# Altium footprint library LQFP-128_14X14.PcbLib: 1 footprints
Each footprint in its own frame and in the unit in brackets; x right, y up, seen from the top. Pads: shape width x height; smd on the part's side, far side on the other; paste and mask are expansions set on the pad; w line width, h text height; cw(c..) or ccw(c..) is an arc to the next point about the centre after c.
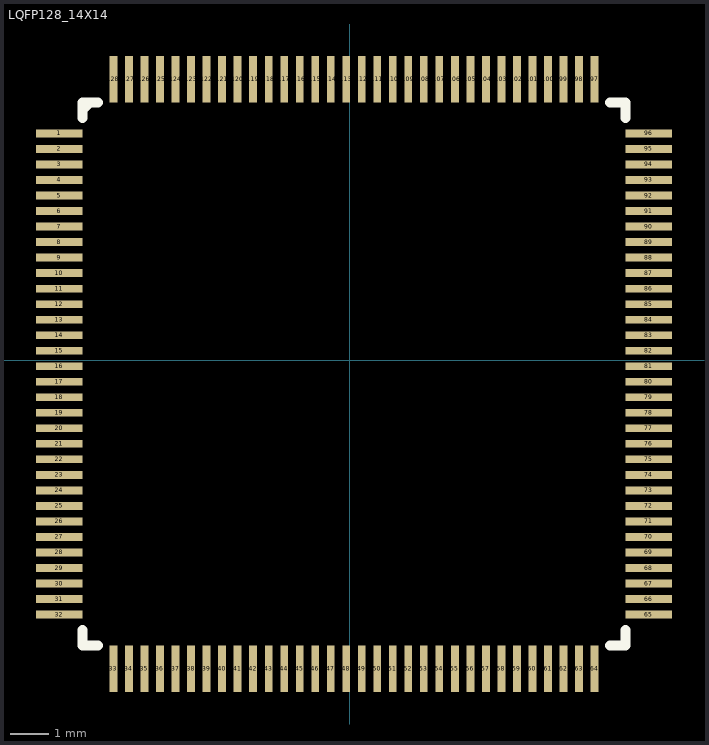
[diagram p0: the footprint, top view; thin cyan lines are the x and y axes]

## LQFP128_14X14 [mm]
pads (128):
  rect 1.2x0.2 smd: 1(-7.493,5.842) 2(-7.493,5.442) 3(-7.493,5.042) 4(-7.493,4.642) 5(-7.493,4.242) 6(-7.493,3.842) 7(-7.493,3.442) 8(-7.493,3.042) 9(-7.493,2.642) 10(-7.493,2.242) 11(-7.493,1.842) 12(-7.493,1.442) 13(-7.493,1.042) 14(-7.493,0.642) 15(-7.493,0.242) 16(-7.493,-0.158) 17(-7.493,-0.558) 18(-7.493,-0.958) 19(-7.493,-1.358) 20(-7.493,-1.758) 21(-7.493,-2.158) 22(-7.493,-2.558) 23(-7.493,-2.958) 24(-7.493,-3.358) 25(-7.493,-3.758) 26(-7.493,-4.158) 27(-7.493,-4.558) 28(-7.493,-4.958) 29(-7.493,-5.358) 30(-7.493,-5.758) 31(-7.493,-6.158) 32(-7.493,-6.558) 65(7.707,-6.558) 66(7.707,-6.158) 67(7.707,-5.758) 68(7.707,-5.358) 69(7.707,-4.958) 70(7.707,-4.558) 71(7.707,-4.158) 72(7.707,-3.758) 73(7.707,-3.358) 74(7.707,-2.958) 75(7.707,-2.558) 76(7.707,-2.158) 77(7.707,-1.758) 78(7.707,-1.358) 79(7.707,-0.958) 80(7.707,-0.558) 81(7.707,-0.158) 82(7.707,0.242) 83(7.707,0.642) 84(7.707,1.042) 85(7.707,1.442) 86(7.707,1.842) 87(7.707,2.242) 88(7.707,2.642) 89(7.707,3.042) 90(7.707,3.442) 91(7.707,3.842) 92(7.707,4.242) 93(7.707,4.642) 94(7.707,5.042) 95(7.707,5.442) 96(7.707,5.842)
  rect 0.2x1.2 smd: 33(-6.093,-7.958) 34(-5.693,-7.958) 35(-5.293,-7.958) 36(-4.893,-7.958) 37(-4.493,-7.958) 38(-4.093,-7.958) 39(-3.693,-7.958) 40(-3.293,-7.958) 41(-2.893,-7.958) 42(-2.493,-7.958) 43(-2.093,-7.958) 44(-1.693,-7.958) 45(-1.293,-7.958) 46(-0.893,-7.958) 47(-0.493,-7.958) 48(-0.093,-7.958) 49(0.307,-7.958) 50(0.707,-7.958) 51(1.107,-7.958) 52(1.507,-7.958) 53(1.907,-7.958) 54(2.307,-7.958) 55(2.707,-7.958) 56(3.107,-7.958) 57(3.507,-7.958) 58(3.907,-7.958) 59(4.307,-7.958) 60(4.707,-7.958) 61(5.107,-7.958) 62(5.507,-7.958) 63(5.907,-7.958) 64(6.307,-7.958) 97(6.307,7.242) 98(5.907,7.242) 99(5.507,7.242) 100(5.107,7.242) 101(4.707,7.242) 102(4.307,7.242) 103(3.907,7.242) 104(3.507,7.242) 105(3.107,7.242) 106(2.707,7.242) 107(2.307,7.242) 108(1.907,7.242) 109(1.507,7.242) 110(1.107,7.242) 111(0.707,7.242) 112(0.307,7.242) 113(-0.093,7.242) 114(-0.493,7.242) 115(-0.893,7.242) 116(-1.293,7.242) 117(-1.693,7.242) 118(-2.093,7.242) 119(-2.493,7.242) 120(-2.893,7.242) 121(-3.293,7.242) 122(-3.693,7.242) 123(-4.093,7.242) 124(-4.493,7.242) 125(-4.893,7.242) 126(-5.293,7.242) 127(-5.693,7.242) 128(-6.093,7.242)
Top Overlay:
  lines w0.254: -6.893,-6.958 -6.893,-7.358 -6.493,-7.358 ; -6.893,6.242 -6.893,6.642 -6.493,6.642 ; -6.893,6.442 -6.693,6.642 ; 6.707,-7.358 7.107,-7.358 7.107,-6.958 ; 6.707,6.642 7.107,6.642 7.107,6.242